# Altium footprint library Pcblib_20110825.Pcblib: 407 footprints (part 1 of 26)
Each footprint in its own frame and in the unit in brackets; x right, y up, seen from the top. Pads: shape width x height; smd on the part's side, far side on the other; paste and mask are expansions set on the pad; w line width, h text height; cw(c..) or ccw(c..) is an arc to the next point about the centre after c.
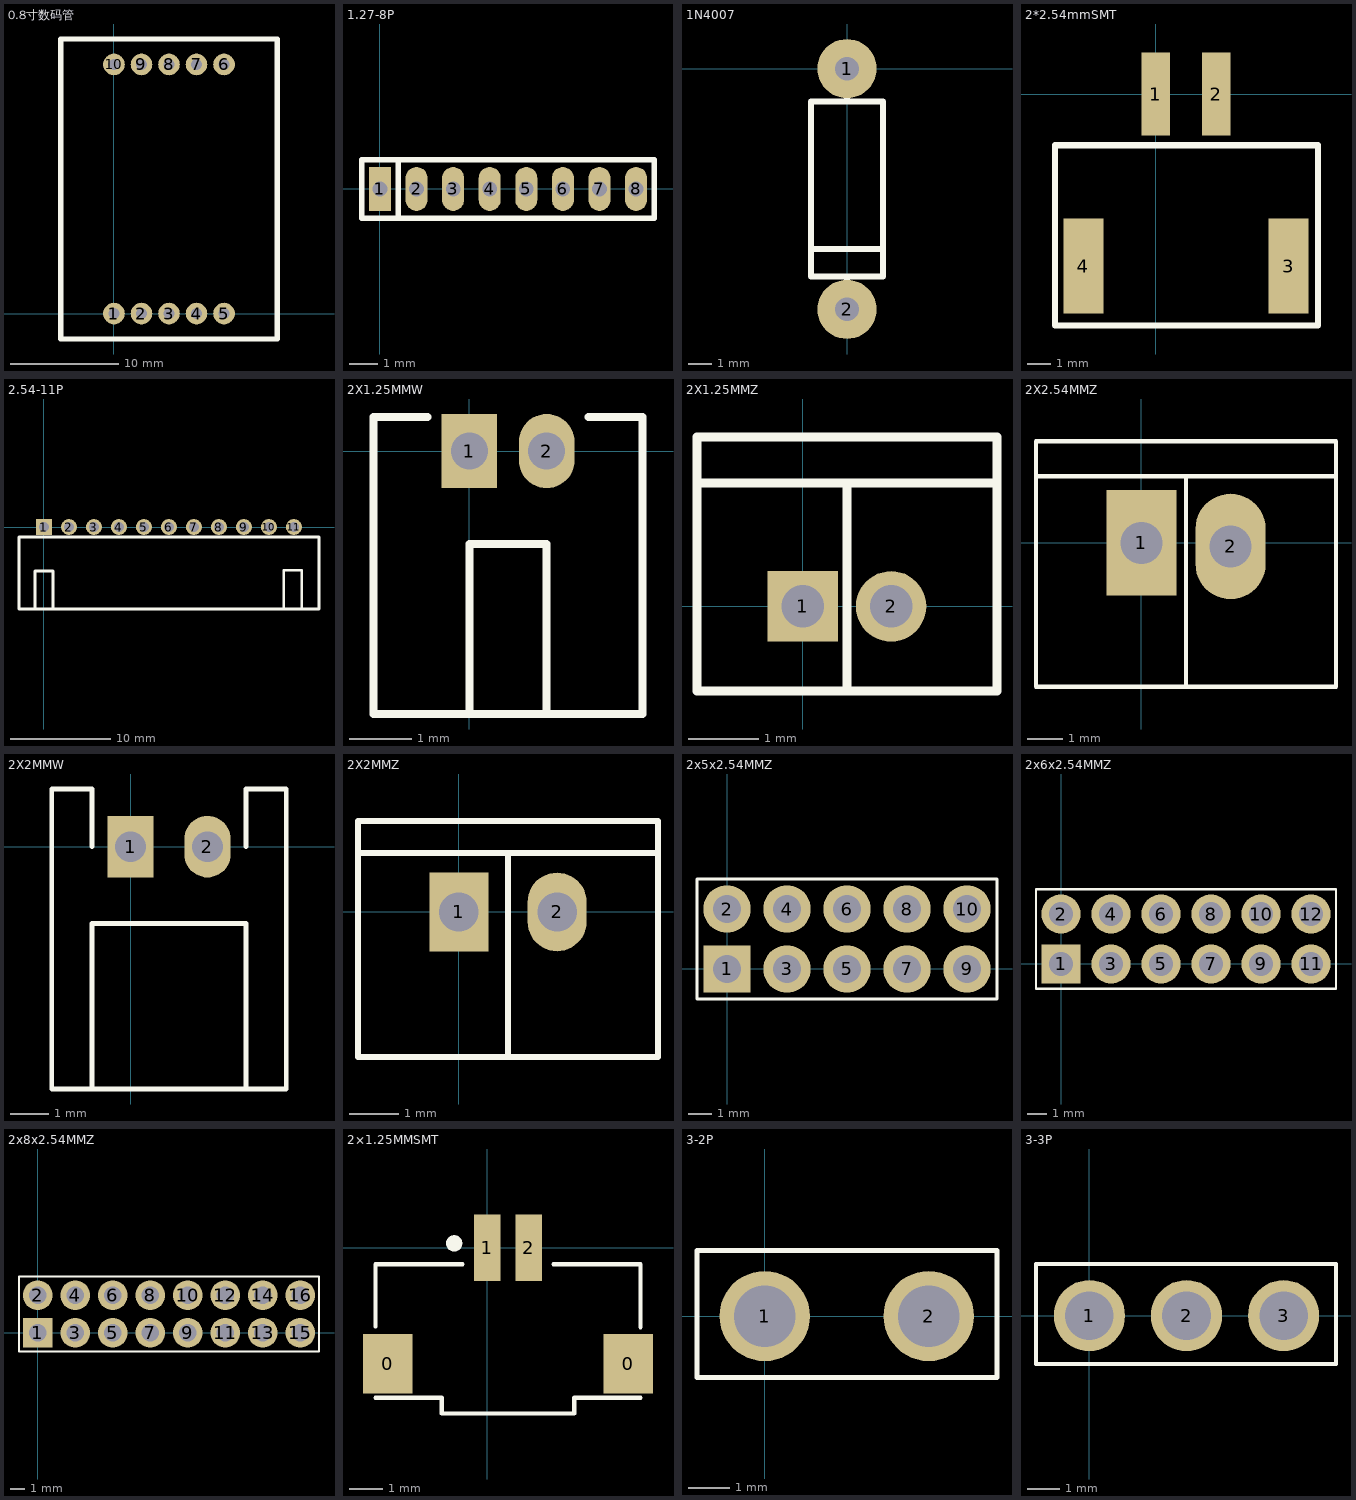
[diagram p0: the footprints below, top view; thin cyan lines are the x and y axes]

## 0.8寸数码管 [mm]
height 1.55
pads (10):
  round 2 hole 1: 1(0,0) 2(2.54,0) 3(5.08,0) 4(7.62,0) 5(10.16,0) 6(10.16,23) 7(7.62,23) 8(5.08,23) 9(2.54,23) 10(0,23)
TopOverlay:
  lines w0.5: -4.92,-2.35 -4.92,25.35 15.08,25.35 15.08,-2.35 -4.92,-2.35

## 1.27-8P [mil]
pads (8):
  rect 30x60 hole 20: 1(0,0)
  oval 30x60 hole 20: 2(50,0) 3(100,0) 4(150,0) 5(200,0) 6(250,0) 7(300,0) 8(350,0)
TopOverlay:
  lines w7.87: -25,-40.13 -25,39.87 ; -25,-40 375,-40 ; -25,40 375,40 ; 25,-40 25,40 ; 325,-40 375,-40 ; 325,40 375,40 ; 375,-40 375,40

## 1N4007 [mm]
height 29
pads (2):
  round 2.5 hole 1: 1(0,0) 2(0,-10.16)
TopOverlay:
  lines w0.254: -1.524,-7.62 1.524,-7.62 ; 0,-9.525 0,-8.763 ; 0,-1.27 0,-0.635 ; -1.524,-8.763 1.524,-8.763 1.524,-1.397 -1.524,-1.397 -1.524,-8.763

## 2*2.54mmSMT [mm]
pads (4):
  rect 1.2x3.5 smd: 1(0,0) 2(2.54,0)
  rect 1.7x4 smd: 3(5.59,-7.25) 4(-3.05,-7.25)
TopOverlay:
  lines w0.254: -4.242,-9.754 6.833,-9.754 6.833,-2.159 -4.242,-2.159 -4.242,-9.754

## 2.54-11P [mm]
pads (11):
  rect 1.6x1.6 hole 1: 1(0,0)
  round 1.6 hole 1: 2(2.5,0) 3(5,0) 4(7.5,0) 5(10,0) 6(12.5,0) 7(15,0) 8(17.5,0) 9(20,0) 10(22.5,0) 11(25,0)
TopOverlay:
  lines w0.254: -0.9,-8.2 -0.9,-4.4 0.9,-4.4 0.9,-8.2 ; 23.976,-8.124 23.976,-4.324 25.776,-4.324 25.776,-8.124 ; -2.5,-8.2 -2.5,-1 27.508,-1 27.508,-8.2 -2.5,-8.2

## 2X1.25MMW [mm]
pads (2):
  rect 0.9x1.2 hole 0.6: 1(0,0)
  oval 0.9x1.2 hole 0.6: 2(1.25,0)
TopOverlay:
  lines w0.127: -0.675,0.55 -1.55,0.55 -1.55,-4.25 2.8,-4.25 2.8,0.55 1.925,0.55 ; 0,-4.25 0,-1.5 1.25,-1.5 1.25,-4.25

## 2X1.25MMZ [mm]
pads (2):
  rect 1x1 hole 0.6: 1(0,0)
  round 1 hole 0.6: 2(1.25,0)
TopOverlay:
  lines w0.127: -1.5,1.75 2.75,1.75 ; 0.625,-1.2 0.625,1.75 ; -1.5,-1.2 -1.5,2.4 2.75,2.4 2.75,-1.2 -1.5,-1.2

## 2X2.54MMZ [mm]
pads (2):
  rect 2x3 hole 1.2: 1(0,0)
  oval 2x3 hole 1.2: 2(2.54,-0.1)
TopOverlay:
  lines w0.127: -3,1.9 5.54,1.9 ; 1.27,-4.1 1.27,1.9 ; -3,-4.1 5.54,-4.1 5.54,2.9 -3,2.9 -3,-4.1

## 2X2MMW [mm]
pads (2):
  rect 1.2x1.6 hole 0.8: 1(0,0)
  oval 1.2x1.6 hole 0.8: 2(2,0)
TopOverlay:
  lines w0.127: -1,-6.3 -1,-2 3,-2 3,-6.3 ; -1,0 -1,1.5 -2.05,1.5 -2.05,-6.3 4.05,-6.3 4.05,1.5 3,1.5 3,0

## 2X2MMZ [mm]
pads (2):
  rect 1.2x1.6 hole 0.8: 1(0,0)
  oval 1.2x1.6 hole 0.8: 2(2,0)
TopOverlay:
  lines w0.127: -2.05,1.2 4.05,1.2 ; 1,-2.95 1,1.2 ; -2.05,-2.95 -2.05,1.85 4.05,1.85 4.05,-2.95 -2.05,-2.95

## 2x5x2.54MMZ [mm]
pads (10):
  rect 2x2 hole 1.2: 1(0,0)
  round 2 hole 1.2: 2(0,2.54) 3(2.54,0) 4(2.54,2.54) 5(5.08,0) 6(5.08,2.54) 7(7.62,0) 8(7.62,2.54) 9(10.16,0) 10(10.16,2.54)
TopOverlay:
  lines w0.127: -1.27,-1.27 11.43,-1.27 11.43,3.81 -1.27,3.81 -1.27,-1.27

## 2x6x2.54MMZ [mm]
pads (12):
  rect 2x2 hole 1.2: 1(0,0)
  round 2 hole 1.2: 2(0,2.54) 3(2.54,0) 4(2.54,2.54) 5(5.08,0) 6(5.08,2.54) 7(7.62,0) 8(7.62,2.54) 9(10.16,0) 10(10.16,2.54) 11(12.7,0) 12(12.7,2.54)
TopOverlay:
  lines w0.127: -1.27,-1.27 13.97,-1.27 13.97,3.81 -1.27,3.81 -1.27,-1.27

## 2x8x2.54MMZ [mm]
pads (16):
  rect 2x2 hole 1.2: 1(0,0)
  round 2 hole 1.2: 2(0,2.54) 3(2.54,0) 4(2.54,2.54) 5(5.08,0) 6(5.08,2.54) 7(7.62,0) 8(7.62,2.54) 9(10.16,0) 10(10.16,2.54) 11(12.7,0) 12(12.7,2.54) 13(15.24,0) 14(15.24,2.54) 15(17.78,0) 16(17.78,2.54)
TopOverlay:
  lines w0.127: -1.27,-1.27 -1.27,3.81 19.05,3.81 19.05,-1.27 -1.27,-1.27

## 2×1.25MMSMT [mm]
pads (5):
  rect 1.5x1.8 smd: 0(-3,-3.5) 0(4.25,-3.5)
  rect 0.8x2 smd: 1(0,0) 2(1.25,0)
  round 0.5 on Top Overlay: ""(-1,0.13)
TopOverlay:
  lines w0.127: -3.375,-4.525 -1.375,-4.525 -1.375,-5 2.625,-5 2.625,-4.525 4.625,-4.525 ; -3.375,-2.38 -3.375,-0.5 -0.75,-0.5 ; 2,-0.5 4.625,-0.5 4.625,-2.397

## 3-2P [mm]
pads (2):
  round 2.2 hole 1.5: 1(0,0) 2(4,0)
TopOverlay:
  lines w0.127: -1.651,-1.499 -1.651,1.6 5.664,1.6 5.664,-1.499 -1.651,-1.499

## 3-3P [mm]
pads (3):
  round 2.2 hole 1.5: 1(0,0) 2(3,0) 3(6,0)
TopOverlay:
  lines w0.127: -1.651,-1.499 -1.651,1.6 7.62,1.6 7.62,-1.499 -1.651,-1.499